# EAGLE library part 679310124022 (library Wire_to_Board_Connectors_rev15d)
WR-WTB 1.50mm SMT Male Vertical Shrouded Header, 10 Pins=>Code : Con_WTB_1.50_PCB_SMT_679310124022 <http://katalog.we-online.de/media/thumbs2/eican/thb_Con_WTB_1.50_PCB_SMT_6793xx124022_pf2.jpg> Details see: http://katalog.we-online.de/en/em/679_3xx_124_022 Created 2014-06-06, Karrer Zheng 2014 (C) Würth Elektronik
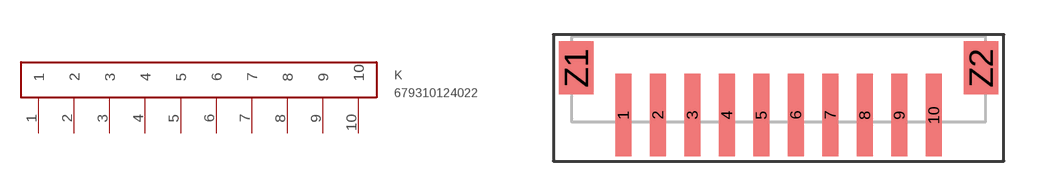
[diagram p48: symbol with the pads of 679310124022; footprint 679310124022]

Designator prefix K

## 679310124022  [679310124022]
1  1  pas
2  2  pas
3  3  pas
4  4  pas
5  5  pas
6  6  pas
7  7  pas
8  8  pas
9  9  pas
10  10  pas

## Footprint 679310124022 (pad centres in mm)
WR-WTB 1.50mm SMT Male Vertical Shrouded Header, 10 Pins
smd 0.7 x 3.6: 1 -6.75,0; 2 -5.25,0; 3 -3.75,0; 4 -2.25,0; 5 -0.75,0; 6 0.75,0; 7 2.25,0; 8 3.75,0; 9 5.25,0; 10 6.75,0
smd 1.5 x 2.3: Z1 -8.8,2.05; Z2 8.8,2.05